# Altium integrated library Infineon_Microcontroller.IntLib: 721 symbols (part 40 of 66)
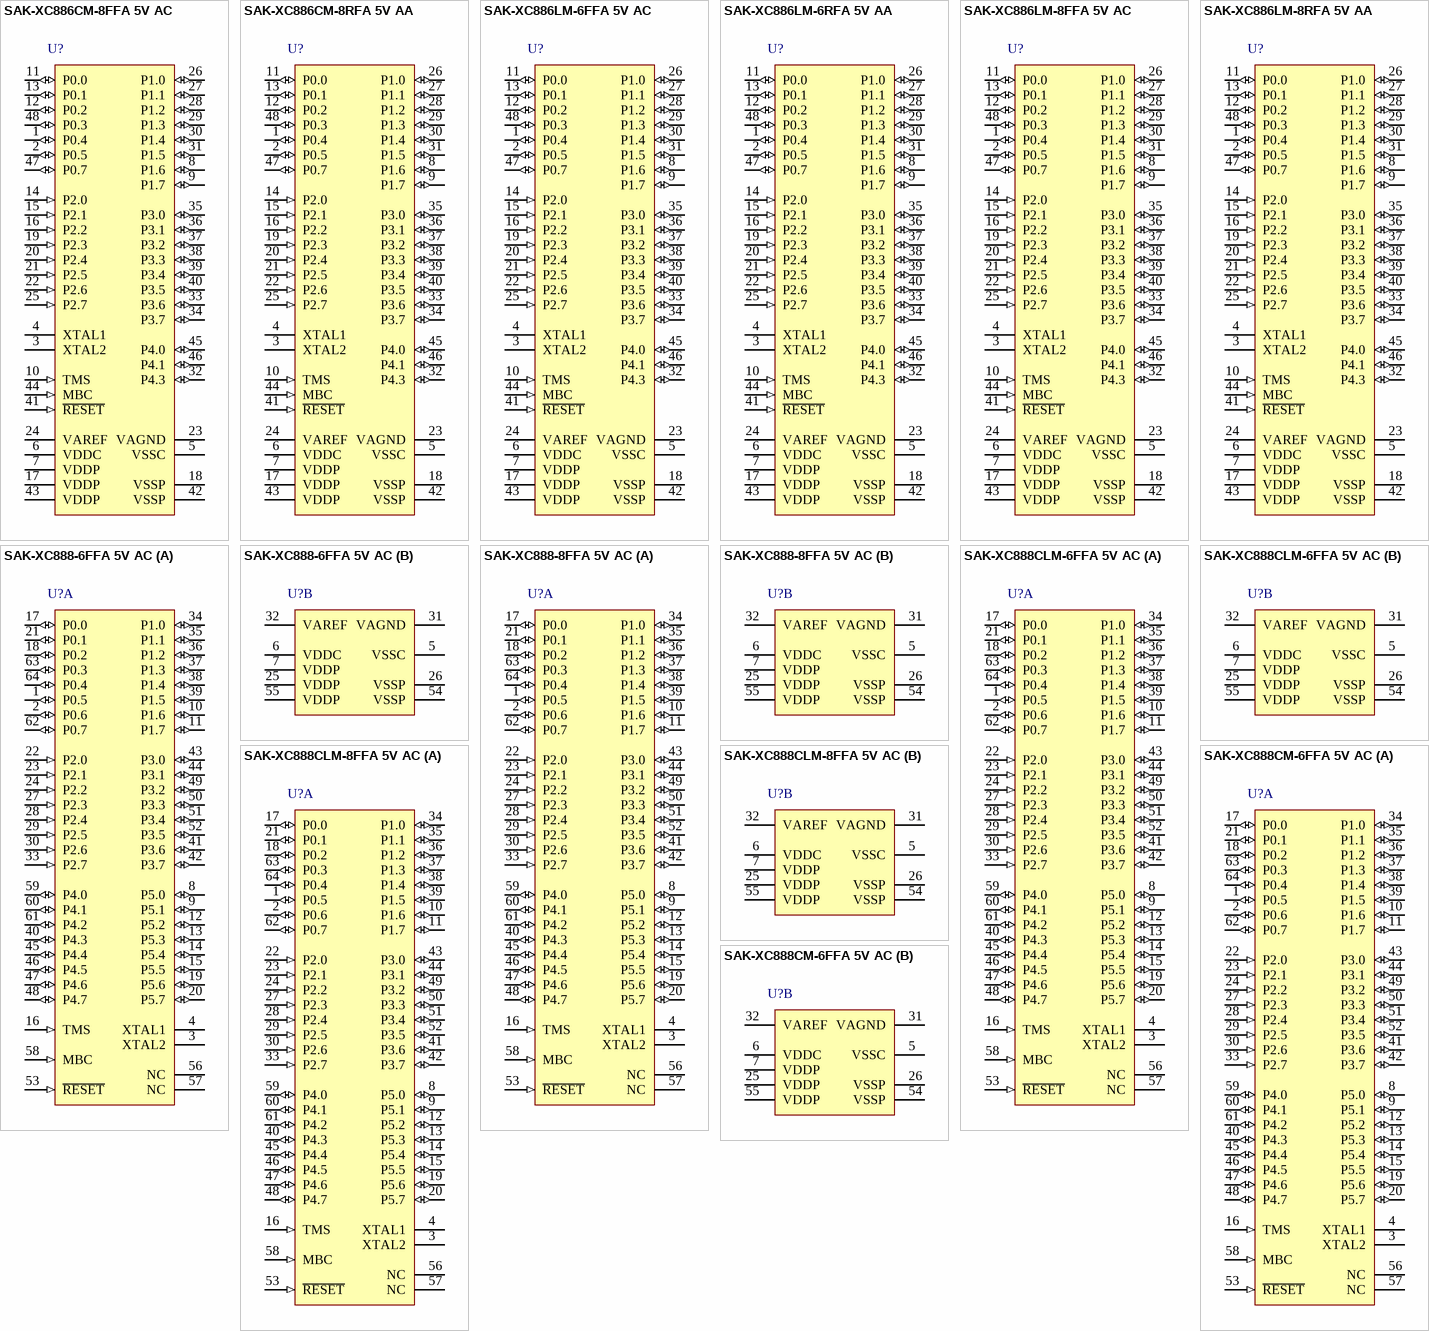
[diagram p157: symbols SAK-XC886CM-8FFA 5V AC to SAK-XC888CM-6FFA 5V AC]

## SAK-XC886LM-8RFA 5V AA
designator U?
24 MHz XC800-Automotive MCU with 32 KByte Program Memory, 1.75 KByte SRAM, 5 V, PG-TQFP-48, Green; Manufacturer: Infineon; PartNumber: SAK-XC886LM-8RFA 5V AA; A / D input lines (incl. FADC): 8; CAN Nodes: 0; Digital I/O Lines: 34; DSP functionality (e.g MDU/MAC): TRUE; I/O Operation Voltages: 5 V; LIN BSL loader (for fast Flash programming): FALSE; Max Clock Frequency: 24 MHz; Number of ADC Modules: 1; Power Modes: 4; Real Time Clock (RTC): FALSE; Serial I/O Interfaces: 3; Type of Memory: ROM; Type of Serial I/O Interfaces: UART(2), SSC(1); DatasheetVersion: Rev. 1.2; PackageVersion: V1.2, 07/2009; PackageReference: PG-TQFP-48-2; PackageDescription: 48-Pin Plastic (Green) Thin Quad Flat Package, Body 7 x 7 mm, Pitch 0.5 mm; DMA Channels: 0; E2PROM Emulation (Data-Flash): TRUE; Green: TRUE; Instruction width [bits]: 8; On-chip clock generation: TRUE; On-chip Voltage Regulator: TRUE; Oscillator Watchdog: TRUE; Program Memory: 32 KByte; SRAM (incl. Cache): 1.75 KByte; Timed I/O Pins (PWM-Ch,CAPCOM): 4; Timer / Counter: 4; Watchdog Timer: TRUE; Mounting Technology: Surface Mount; ComponentLink1Description: Manufacturer URL; ComponentLink1URL: http://www.infineon.com/; ComponentLink2Description: Datasheet; ComponentLink2URL: http://www.infineon.com/dgdl/XC88xCLM_ds_V1_2.pdf?folderId=db3a304412b407950112b408e8c90004&fileId=db3a304412b407950112b40c4a9e0afb; ComponentLink3Description: Package Specification; ComponentLink3URL: http://www.infineon.com/dgdl/XC88xCLM_ds_V1_2.pdf?folderId=db3a304412b407950112b408e8c90004&fileId=db3a304412b407950112b40c4a9e0afb&sId=db3a30433d956bc3013d9f3d9f5d28dc
footprint INF-PG-TQFP-48-2_N (QFP, 48-Leads, Body 7x7mm, Pitch 0.5mm, IPC Medium Density)
footprint INF-PG-TQFP-48-2_L (QFP, 48-Leads, Body 7x7mm, Pitch 0.5mm, IPC High Density)
footprint INF-PG-TQFP-48-2_M (QFP, 48-Leads, Body 7x7mm, Pitch 0.5mm, IPC Low Density)
pins: 1 P0.4 (io), 2 P0.5 (io), 3 XTAL2 "External Oscillator Output", 4 XTAL1 "External Oscillator Input", 5 VSSC (power) "Core Supply Ground", 6 VDDC (power) "Core Supply Monitor (2.5 V)", 7 VDDP (power) "I/O Port Supply (3.3 or 5.0 V)", 8 P1.6 (io), 9 P1.7 (io), 10 TMS (in) "Test Mode Select", 11 P0.0 (io), 12 P0.2 (io), 13 P0.1 (io), 14 P2.0 (in), 15 P2.1 (in), 16 P2.2 (in), 17 VDDP (power) "I/O Port Supply (3.3 or 5.0 V)", 18 VSSP (power) "I/O Port Ground", 19 P2.3 (in), 20 P2.4 (in), 21 P2.5 (in), 22 P2.6 (in), 23 VAGND (power) "ADC Reference Ground", 24 VAREF (power) "ADC Reference Voltage", 25 P2.7 (in), 26 P1.0 (io), 27 P1.1 (io), 28 P1.2 (io), 29 P1.3 (io), 30 P1.4 (io), 31 P1.5 (io), 32 P4.3 (io), 33 P3.6 (io), 34 P3.7 (io), 35 P3.0 (io), 36 P3.1 (io), 37 P3.2 (io), 38 P3.3 (io), 39 P3.4 (io), 40 P3.5 (io), 41 ~{RESET} (in) "Reset Input", 42 VSSP (power) "I/O Port Ground", 43 VDDP (power) "I/O Port Supply (3.3 or 5.0 V)", 44 MBC (in) "Monitor & BootStrap Loader Control", 45 P4.0 (io), 46 P4.1 (io), 47 P0.7 (io), 48 P0.3 (io)

## SAK-XC888-6FFA 5V AC
designator U?
24 MHz XC800-Automotive MCU with 24 KByte Program Memory, 1.75 KByte SRAM, 5 V, PG-LQFP-64, Reel, Green; Manufacturer: Infineon; PartNumber: SAK-XC888-6FFA 5V AC; A / D input lines (incl. FADC): 8; CAN Nodes: 0; Digital I/O Lines: 48; DSP functionality (e.g MDU/MAC): FALSE; E2PROM Emulation (Data-Flash): TRUE; I/O Operation Voltages: 5 V; LIN BSL loader (for fast Flash programming): FALSE; Max Clock Frequency: 24 MHz; Number of ADC Modules: 1; Power Modes: 4; Serial I/O Interfaces: 3; Type of Memory: Flash; Type of Serial I/O Interfaces: UART(2), SSC(1); DatasheetVersion: Rev. 1.2; PackageVersion: V1.2, 03/2007; PackageReference: PG-TQFP-64-8; PackageDescription: 64-Pin Plastic Thin Quad Flat Package, Body 10 x 10 mm, Pitch 0.5 mm; Supplier 1: Digi-Key; Supplier Part Number 1: SAK-XC888-6FFA 5V AC-ND; DMA Channels: 0; Green: TRUE; Halogen-free: TRUE; Instruction width [bits]: 8; On-chip clock generation: TRUE; On-chip Voltage Regulator: TRUE; Oscillator Watchdog: TRUE; Program Memory: 24 KByte; Real Time Clock (RTC): FALSE; SRAM (incl. Cache): 1.75 KByte; Timed I/O Pins (PWM-Ch,CAPCOM): 4; Timer / Counter: 4; Watchdog Timer: TRUE; Mounting Technology: Surface Mount; ComponentLink1Description: Manufacturer URL; ComponentLink1URL: http://www.infineon.com/; ComponentLink2Description: Datasheet; ComponentLink2URL: http://www.infineon.com/dgdl/XC88xCLM_ds_V1_2.pdf?folderId=db3a304412b407950112b408e8c90004&fileId=db3a304412b407950112b40c4a9e0afb; ComponentLink3Description: Package Specification; ComponentLink3URL: http://www.infineon.com/dgdl/xc164lm_ds_v1.2_2007_03.pdf?folderId=db3a304412b407950112b408e8c90004&fileId=db3a304412b407950112b40c22200a81&sId=db3a30433d956bc3013d9e7060dd2801
footprint INF-PG-TQFP-64-8_N (QFP, 64-Leads, Body 10x10mm, Pitch 0.5mm, IPC Medium Density)
footprint INF-PG-TQFP-64-8_L (QFP, 64-Leads, Body 10x10mm, Pitch 0.5mm, IPC High Density)
footprint INF-PG-TQFP-64-8_M (QFP, 64-Leads, Body 10x10mm, Pitch 0.5mm, IPC Low Density)
part A pins: 1 P0.5 (io), 2 P0.6 (io) "GPIO", 3 XTAL2 "External Oscillator Output", 4 XTAL1 "External Oscillator Input", 8 P5.0 (io), 9 P5.1 (io), 10 P1.6 (io), 11 P1.7 (io), 12 P5.2 (io), 13 P5.3 (io), 14 P5.4 (io), 15 P5.5 (io), 16 TMS (in) "Test Mode Select", 17 P0.0 (io), 18 P0.2 (io), 19 P5.6 (io), 20 P5.7 (io), 21 P0.1 (io), 22 P2.0 (in), 23 P2.1 (in), 24 P2.2 (in), 27 P2.3 (in), 28 P2.4 (in), 29 P2.5 (in), 30 P2.6 (in), 33 P2.7 (in), 34 P1.0 (io), 35 P1.1 (io), 36 P1.2 (io), 37 P1.3 (io), 38 P1.4 (io), 39 P1.5 (io), 40 P4.3 (io), 41 P3.6 (io), 42 P3.7 (io), 43 P3.0 (io), 44 P3.1 (io), 45 P4.4 (io), 46 P4.5 (io), 47 P4.6 (io), 48 P4.7 (io), 49 P3.2 (io), 50 P3.3 (io), 51 P3.4 (io), 52 P3.5 (io), 53 ~{RESET} (in) "Reset Input", 56 NC "No Connection", 57 NC "No Connection", 58 MBC (in) "Monitor & BootStrap Loader Control", 59 P4.0 (io), 60 P4.1 (io), 61 P4.2 (io), 62 P0.7 (io), 63 P0.3 (io), 64 P0.4 (io)
part B pins: 5 VSSC (power) "Core Supply Ground", 6 VDDC (power) "Core Supply Monitor (2.5 V)", 7 VDDP (power) "I/O Port Supply (3.3 or 5.0 V)", 25 VDDP (power) "I/O Port Supply (3.3 or 5.0 V)", 26 VSSP (power) "I/O Port Ground", 31 VAGND (power) "ADC Reference Ground", 32 VAREF (power) "ADC Reference Voltage", 54 VSSP (power) "I/O Port Ground", 55 VDDP (power) "I/O Port Supply (3.3 or 5.0 V)"

## SAK-XC888-8FFA 5V AC
designator U?
24 MHz XC800-Automotive MCU with 32 KByte Program Memory, 1.75 KByte SRAM, 5 V, PG-LQFP-64, Reel, Green; Manufacturer: Infineon; PartNumber: SAK-XC888-8FFA 5V AC; A / D input lines (incl. FADC): 8; CAN Nodes: 0; Digital I/O Lines: 48; DSP functionality (e.g MDU/MAC): FALSE; E2PROM Emulation (Data-Flash): TRUE; I/O Operation Voltages: 5 V; LIN BSL loader (for fast Flash programming): FALSE; Max Clock Frequency: 24 MHz; Number of ADC Modules: 1; Power Modes: 4; Serial I/O Interfaces: 3; Type of Memory: Flash; Type of Serial I/O Interfaces: UART(2), SSC(1); DatasheetVersion: Rev. 1.2; PackageVersion: V1.2, 03/2007; PackageReference: PG-TQFP-64-8; PackageDescription: 64-Pin Plastic Thin Quad Flat Package, Body 10 x 10 mm, Pitch 0.5 mm; Supplier 1: Digi-Key; Supplier Part Number 1: SAK-XC888-8FFA 5V AC-ND; DMA Channels: 0; Green: TRUE; Halogen-free: TRUE; Instruction width [bits]: 8; On-chip clock generation: TRUE; On-chip Voltage Regulator: TRUE; Oscillator Watchdog: TRUE; Program Memory: 32 KByte; Real Time Clock (RTC): FALSE; SRAM (incl. Cache): 1.75 KByte; Timed I/O Pins (PWM-Ch,CAPCOM): 4; Timer / Counter: 4; Watchdog Timer: TRUE; Mounting Technology: Surface Mount; ComponentLink1Description: Manufacturer URL; ComponentLink1URL: http://www.infineon.com/; ComponentLink2Description: Datasheet; ComponentLink2URL: http://www.infineon.com/dgdl/XC88xCLM_ds_V1_2.pdf?folderId=db3a304412b407950112b408e8c90004&fileId=db3a304412b407950112b40c4a9e0afb; ComponentLink3Description: Package Specification; ComponentLink3URL: http://www.infineon.com/dgdl/xc164lm_ds_v1.2_2007_03.pdf?folderId=db3a304412b407950112b408e8c90004&fileId=db3a304412b407950112b40c22200a81&sId=db3a30433d956bc3013d9e7060dd2801
footprint INF-PG-TQFP-64-8_N (QFP, 64-Leads, Body 10x10mm, Pitch 0.5mm, IPC Medium Density)
footprint INF-PG-TQFP-64-8_L (QFP, 64-Leads, Body 10x10mm, Pitch 0.5mm, IPC High Density)
footprint INF-PG-TQFP-64-8_M (QFP, 64-Leads, Body 10x10mm, Pitch 0.5mm, IPC Low Density)
part A pins: 1 P0.5 (io), 2 P0.6 (io) "GPIO", 3 XTAL2 "External Oscillator Output", 4 XTAL1 "External Oscillator Input", 8 P5.0 (io), 9 P5.1 (io), 10 P1.6 (io), 11 P1.7 (io), 12 P5.2 (io), 13 P5.3 (io), 14 P5.4 (io), 15 P5.5 (io), 16 TMS (in) "Test Mode Select", 17 P0.0 (io), 18 P0.2 (io), 19 P5.6 (io), 20 P5.7 (io), 21 P0.1 (io), 22 P2.0 (in), 23 P2.1 (in), 24 P2.2 (in), 27 P2.3 (in), 28 P2.4 (in), 29 P2.5 (in), 30 P2.6 (in), 33 P2.7 (in), 34 P1.0 (io), 35 P1.1 (io), 36 P1.2 (io), 37 P1.3 (io), 38 P1.4 (io), 39 P1.5 (io), 40 P4.3 (io), 41 P3.6 (io), 42 P3.7 (io), 43 P3.0 (io), 44 P3.1 (io), 45 P4.4 (io), 46 P4.5 (io), 47 P4.6 (io), 48 P4.7 (io), 49 P3.2 (io), 50 P3.3 (io), 51 P3.4 (io), 52 P3.5 (io), 53 ~{RESET} (in) "Reset Input", 56 NC "No Connection", 57 NC "No Connection", 58 MBC (in) "Monitor & BootStrap Loader Control", 59 P4.0 (io), 60 P4.1 (io), 61 P4.2 (io), 62 P0.7 (io), 63 P0.3 (io), 64 P0.4 (io)
part B pins: 5 VSSC (power) "Core Supply Ground", 6 VDDC (power) "Core Supply Monitor (2.5 V)", 7 VDDP (power) "I/O Port Supply (3.3 or 5.0 V)", 25 VDDP (power) "I/O Port Supply (3.3 or 5.0 V)", 26 VSSP (power) "I/O Port Ground", 31 VAGND (power) "ADC Reference Ground", 32 VAREF (power) "ADC Reference Voltage", 54 VSSP (power) "I/O Port Ground", 55 VDDP (power) "I/O Port Supply (3.3 or 5.0 V)"

## SAK-XC888CLM-6FFA 5V AC
designator U?
24 MHz XC800-Automotive MCU with 24 KByte Program Memory, 1.75 KByte SRAM, 5 V, PG-LQFP-64, Reel, Green; Manufacturer: Infineon; PartNumber: SAK-XC888CLM-6FFA 5V AC; A / D input lines (incl. FADC): 8; CAN Nodes: 2; Digital I/O Lines: 48; DMA Channels: 0; DSP functionality (e.g MDU/MAC): TRUE; I/O Operation Voltages: 5 V; Max Clock Frequency: 24 MHz; Number of ADC Modules: 1; Power Modes: 4; Real Time Clock (RTC): FALSE; Serial I/O Interfaces: 3; Type of Memory: Flash; Type of Serial I/O Interfaces: UART(2), SSC(1); DatasheetVersion: Rev. 1.2; PackageVersion: V1.2, 03/2007; PackageReference: PG-TQFP-64-8; PackageDescription: 64-Pin Plastic Thin Quad Flat Package, Body 10 x 10 mm, Pitch 0.5 mm; Supplier 1: Digi-Key; Supplier Part Number 1: SAK-XC888CLM-6FFA 5V AC-ND; E2PROM Emulation (Data-Flash): TRUE; Green: TRUE; Halogen-free: TRUE; Instruction width [bits]: 8; LIN BSL loader (for fast Flash programming): TRUE; On-chip clock generation: TRUE; On-chip Voltage Regulator: TRUE; Oscillator Watchdog: TRUE; Program Memory: 24 KByte; SRAM (incl. Cache): 1.75 KByte; Timed I/O Pins (PWM-Ch,CAPCOM): 4; Timer / Counter: 4; Watchdog Timer: TRUE; Mounting Technology: Surface Mount; ComponentLink1Description: Manufacturer URL; ComponentLink1URL: http://www.infineon.com/; ComponentLink2Description: Datasheet; ComponentLink2URL: http://www.infineon.com/dgdl/XC88xCLM_ds_V1_2.pdf?folderId=db3a304412b407950112b408e8c90004&fileId=db3a304412b407950112b40c4a9e0afb; ComponentLink3Description: Package Specification; ComponentLink3URL: http://www.infineon.com/dgdl/xc164lm_ds_v1.2_2007_03.pdf?folderId=db3a304412b407950112b408e8c90004&fileId=db3a304412b407950112b40c22200a81&sId=db3a30433d956bc3013d9e7060dd2801
footprint INF-PG-TQFP-64-8_N (QFP, 64-Leads, Body 10x10mm, Pitch 0.5mm, IPC Medium Density)
footprint INF-PG-TQFP-64-8_L (QFP, 64-Leads, Body 10x10mm, Pitch 0.5mm, IPC High Density)
footprint INF-PG-TQFP-64-8_M (QFP, 64-Leads, Body 10x10mm, Pitch 0.5mm, IPC Low Density)
part A pins: 1 P0.5 (io), 2 P0.6 (io) "GPIO", 3 XTAL2 "External Oscillator Output", 4 XTAL1 "External Oscillator Input", 8 P5.0 (io), 9 P5.1 (io), 10 P1.6 (io), 11 P1.7 (io), 12 P5.2 (io), 13 P5.3 (io), 14 P5.4 (io), 15 P5.5 (io), 16 TMS (in) "Test Mode Select", 17 P0.0 (io), 18 P0.2 (io), 19 P5.6 (io), 20 P5.7 (io), 21 P0.1 (io), 22 P2.0 (in), 23 P2.1 (in), 24 P2.2 (in), 27 P2.3 (in), 28 P2.4 (in), 29 P2.5 (in), 30 P2.6 (in), 33 P2.7 (in), 34 P1.0 (io), 35 P1.1 (io), 36 P1.2 (io), 37 P1.3 (io), 38 P1.4 (io), 39 P1.5 (io), 40 P4.3 (io), 41 P3.6 (io), 42 P3.7 (io), 43 P3.0 (io), 44 P3.1 (io), 45 P4.4 (io), 46 P4.5 (io), 47 P4.6 (io), 48 P4.7 (io), 49 P3.2 (io), 50 P3.3 (io), 51 P3.4 (io), 52 P3.5 (io), 53 ~{RESET} (in) "Reset Input", 56 NC "No Connection", 57 NC "No Connection", 58 MBC (in) "Monitor & BootStrap Loader Control", 59 P4.0 (io), 60 P4.1 (io), 61 P4.2 (io), 62 P0.7 (io), 63 P0.3 (io), 64 P0.4 (io)
part B pins: 5 VSSC (power) "Core Supply Ground", 6 VDDC (power) "Core Supply Monitor (2.5 V)", 7 VDDP (power) "I/O Port Supply (3.3 or 5.0 V)", 25 VDDP (power) "I/O Port Supply (3.3 or 5.0 V)", 26 VSSP (power) "I/O Port Ground", 31 VAGND (power) "ADC Reference Ground", 32 VAREF (power) "ADC Reference Voltage", 54 VSSP (power) "I/O Port Ground", 55 VDDP (power) "I/O Port Supply (3.3 or 5.0 V)"

## SAK-XC888CLM-8FFA 5V AC
designator U?
24 MHz XC800-Automotive MCU with 32 KByte Program Memory, 1.75 KByte SRAM, 5 V, PG-LQFP-64, Reel, Green; Manufacturer: Infineon; PartNumber: SAK-XC888CLM-8FFA 5V AC; A / D input lines (incl. FADC): 8; CAN Nodes: 2; Digital I/O Lines: 48; DMA Channels: 0; DSP functionality (e.g MDU/MAC): TRUE; I/O Operation Voltages: 5 V; Max Clock Frequency: 24 MHz; Number of ADC Modules: 1; Power Modes: 4; Real Time Clock (RTC): FALSE; Serial I/O Interfaces: 3; Type of Memory: Flash; Type of Serial I/O Interfaces: UART(2), SSC(1); DatasheetVersion: Rev. 1.2; PackageVersion: V1.2, 03/2007; PackageReference: PG-TQFP-64-8; PackageDescription: 64-Pin Plastic Thin Quad Flat Package, Body 10 x 10 mm, Pitch 0.5 mm; Supplier 1: Digi-Key; Supplier Part Number 1: SAK-XC888CLM-8FFA 5V AC-ND; E2PROM Emulation (Data-Flash): TRUE; Green: TRUE; Halogen-free: available; Instruction width [bits]: 8; LIN BSL loader (for fast Flash programming): TRUE; On-chip clock generation: TRUE; On-chip Voltage Regulator: TRUE; Oscillator Watchdog: TRUE; Packing: Reel; Program Memory: 32 KByte; SRAM (incl. Cache): 1.75 KByte; Timed I/O Pins (PWM-Ch,CAPCOM): 4; Timer / Counter: 4; Watchdog Timer: TRUE; Mounting Technology: Surface Mount; ComponentLink1Description: Manufacturer URL; ComponentLink1URL: http://www.infineon.com/; ComponentLink2Description: Datasheet; ComponentLink2URL: http://www.infineon.com/dgdl/XC88xCLM_ds_V1_2.pdf?folderId=db3a304412b407950112b408e8c90004&fileId=db3a304412b407950112b40c4a9e0afb; ComponentLink3Description: Package Specification; ComponentLink3URL: http://www.infineon.com/dgdl/xc164lm_ds_v1.2_2007_03.pdf?folderId=db3a304412b407950112b408e8c90004&fileId=db3a304412b407950112b40c22200a81&sId=db3a30433d956bc3013d9e7060dd2801
footprint INF-PG-TQFP-64-8_N (QFP, 64-Leads, Body 10x10mm, Pitch 0.5mm, IPC Medium Density)
footprint INF-PG-TQFP-64-8_L (QFP, 64-Leads, Body 10x10mm, Pitch 0.5mm, IPC High Density)
footprint INF-PG-TQFP-64-8_M (QFP, 64-Leads, Body 10x10mm, Pitch 0.5mm, IPC Low Density)
part A pins: 1 P0.5 (io), 2 P0.6 (io) "GPIO", 3 XTAL2 "External Oscillator Output", 4 XTAL1 "External Oscillator Input", 8 P5.0 (io), 9 P5.1 (io), 10 P1.6 (io), 11 P1.7 (io), 12 P5.2 (io), 13 P5.3 (io), 14 P5.4 (io), 15 P5.5 (io), 16 TMS (in) "Test Mode Select", 17 P0.0 (io), 18 P0.2 (io), 19 P5.6 (io), 20 P5.7 (io), 21 P0.1 (io), 22 P2.0 (in), 23 P2.1 (in), 24 P2.2 (in), 27 P2.3 (in), 28 P2.4 (in), 29 P2.5 (in), 30 P2.6 (in), 33 P2.7 (in), 34 P1.0 (io), 35 P1.1 (io), 36 P1.2 (io), 37 P1.3 (io), 38 P1.4 (io), 39 P1.5 (io), 40 P4.3 (io), 41 P3.6 (io), 42 P3.7 (io), 43 P3.0 (io), 44 P3.1 (io), 45 P4.4 (io), 46 P4.5 (io), 47 P4.6 (io), 48 P4.7 (io), 49 P3.2 (io), 50 P3.3 (io), 51 P3.4 (io), 52 P3.5 (io), 53 ~{RESET} (in) "Reset Input", 56 NC "No Connection", 57 NC "No Connection", 58 MBC (in) "Monitor & BootStrap Loader Control", 59 P4.0 (io), 60 P4.1 (io), 61 P4.2 (io), 62 P0.7 (io), 63 P0.3 (io), 64 P0.4 (io)
part B pins: 5 VSSC (power) "Core Supply Ground", 6 VDDC (power) "Core Supply Monitor (2.5 V)", 7 VDDP (power) "I/O Port Supply (3.3 or 5.0 V)", 25 VDDP (power) "I/O Port Supply (3.3 or 5.0 V)", 26 VSSP (power) "I/O Port Ground", 31 VAGND (power) "ADC Reference Ground", 32 VAREF (power) "ADC Reference Voltage", 54 VSSP (power) "I/O Port Ground", 55 VDDP (power) "I/O Port Supply (3.3 or 5.0 V)"

## SAK-XC888CM-6FFA 5V AC
designator U?
24 MHz XC800-Automotive MCU with 24 KByte Program Memory, 1.75 KByte SRAM, 5 V, PG-LQFP-64, Reel, Green; Manufacturer: Infineon; PartNumber: SAK-XC888CM-6FFA 5V AC; A / D input lines (incl. FADC): 8; CAN Nodes: 2; Digital I/O Lines: 48; DMA Channels: 0; DSP functionality (e.g MDU/MAC): TRUE; I/O Operation Voltages: 5 V; LIN BSL loader (for fast Flash programming): FALSE; Max Clock Frequency: 24 MHz; Number of ADC Modules: 1; Power Modes: 4; Real Time Clock (RTC): FALSE; Serial I/O Interfaces: 3; Type of Memory: Flash; Type of Serial I/O Interfaces: UART(2), SSC(1); DatasheetVersion: Rev. 1.2; PackageVersion: V1.2, 03/2007; PackageReference: PG-TQFP-64-8; PackageDescription: 64-Pin Plastic Thin Quad Flat Package, Body 10 x 10 mm, Pitch 0.5 mm; Supplier 1: Digi-Key; Supplier Part Number 1: SAK-XC888CM-6FFA 5V AC-ND; E2PROM Emulation (Data-Flash): TRUE; Green: TRUE; Halogen-free: TRUE; Instruction width [bits]: 8; On-chip clock generation: TRUE; On-chip Voltage Regulator: TRUE; Oscillator Watchdog: TRUE; Program Memory: 24 KByte; SRAM (incl. Cache): 1.75 KByte; Timed I/O Pins (PWM-Ch,CAPCOM): 4; Timer / Counter: 4; Watchdog Timer: TRUE; Mounting Technology: Surface Mount; ComponentLink1Description: Manufacturer URL; ComponentLink1URL: http://www.infineon.com/; ComponentLink2Description: Datasheet; ComponentLink2URL: http://www.infineon.com/dgdl/XC88xCLM_ds_V1_2.pdf?folderId=db3a304412b407950112b408e8c90004&fileId=db3a304412b407950112b40c4a9e0afb; ComponentLink3Description: Package Specification; ComponentLink3URL: http://www.infineon.com/dgdl/xc164lm_ds_v1.2_2007_03.pdf?folderId=db3a304412b407950112b408e8c90004&fileId=db3a304412b407950112b40c22200a81&sId=db3a30433d956bc3013d9e7060dd2801
footprint INF-PG-TQFP-64-8_N (QFP, 64-Leads, Body 10x10mm, Pitch 0.5mm, IPC Medium Density)
footprint INF-PG-TQFP-64-8_L (QFP, 64-Leads, Body 10x10mm, Pitch 0.5mm, IPC High Density)
footprint INF-PG-TQFP-64-8_M (QFP, 64-Leads, Body 10x10mm, Pitch 0.5mm, IPC Low Density)
part A pins: 1 P0.5 (io), 2 P0.6 (io) "GPIO", 3 XTAL2 "External Oscillator Output", 4 XTAL1 "External Oscillator Input", 8 P5.0 (io), 9 P5.1 (io), 10 P1.6 (io), 11 P1.7 (io), 12 P5.2 (io), 13 P5.3 (io), 14 P5.4 (io), 15 P5.5 (io), 16 TMS (in) "Test Mode Select", 17 P0.0 (io), 18 P0.2 (io), 19 P5.6 (io), 20 P5.7 (io), 21 P0.1 (io), 22 P2.0 (in), 23 P2.1 (in), 24 P2.2 (in), 27 P2.3 (in), 28 P2.4 (in), 29 P2.5 (in), 30 P2.6 (in), 33 P2.7 (in), 34 P1.0 (io), 35 P1.1 (io), 36 P1.2 (io), 37 P1.3 (io), 38 P1.4 (io), 39 P1.5 (io), 40 P4.3 (io), 41 P3.6 (io), 42 P3.7 (io), 43 P3.0 (io), 44 P3.1 (io), 45 P4.4 (io), 46 P4.5 (io), 47 P4.6 (io), 48 P4.7 (io), 49 P3.2 (io), 50 P3.3 (io), 51 P3.4 (io), 52 P3.5 (io), 53 ~{RESET} (in) "Reset Input", 56 NC "No Connection", 57 NC "No Connection", 58 MBC (in) "Monitor & BootStrap Loader Control", 59 P4.0 (io), 60 P4.1 (io), 61 P4.2 (io), 62 P0.7 (io), 63 P0.3 (io), 64 P0.4 (io)
part B pins: 5 VSSC (power) "Core Supply Ground", 6 VDDC (power) "Core Supply Monitor (2.5 V)", 7 VDDP (power) "I/O Port Supply (3.3 or 5.0 V)", 25 VDDP (power) "I/O Port Supply (3.3 or 5.0 V)", 26 VSSP (power) "I/O Port Ground", 31 VAGND (power) "ADC Reference Ground", 32 VAREF (power) "ADC Reference Voltage", 54 VSSP (power) "I/O Port Ground", 55 VDDP (power) "I/O Port Supply (3.3 or 5.0 V)"

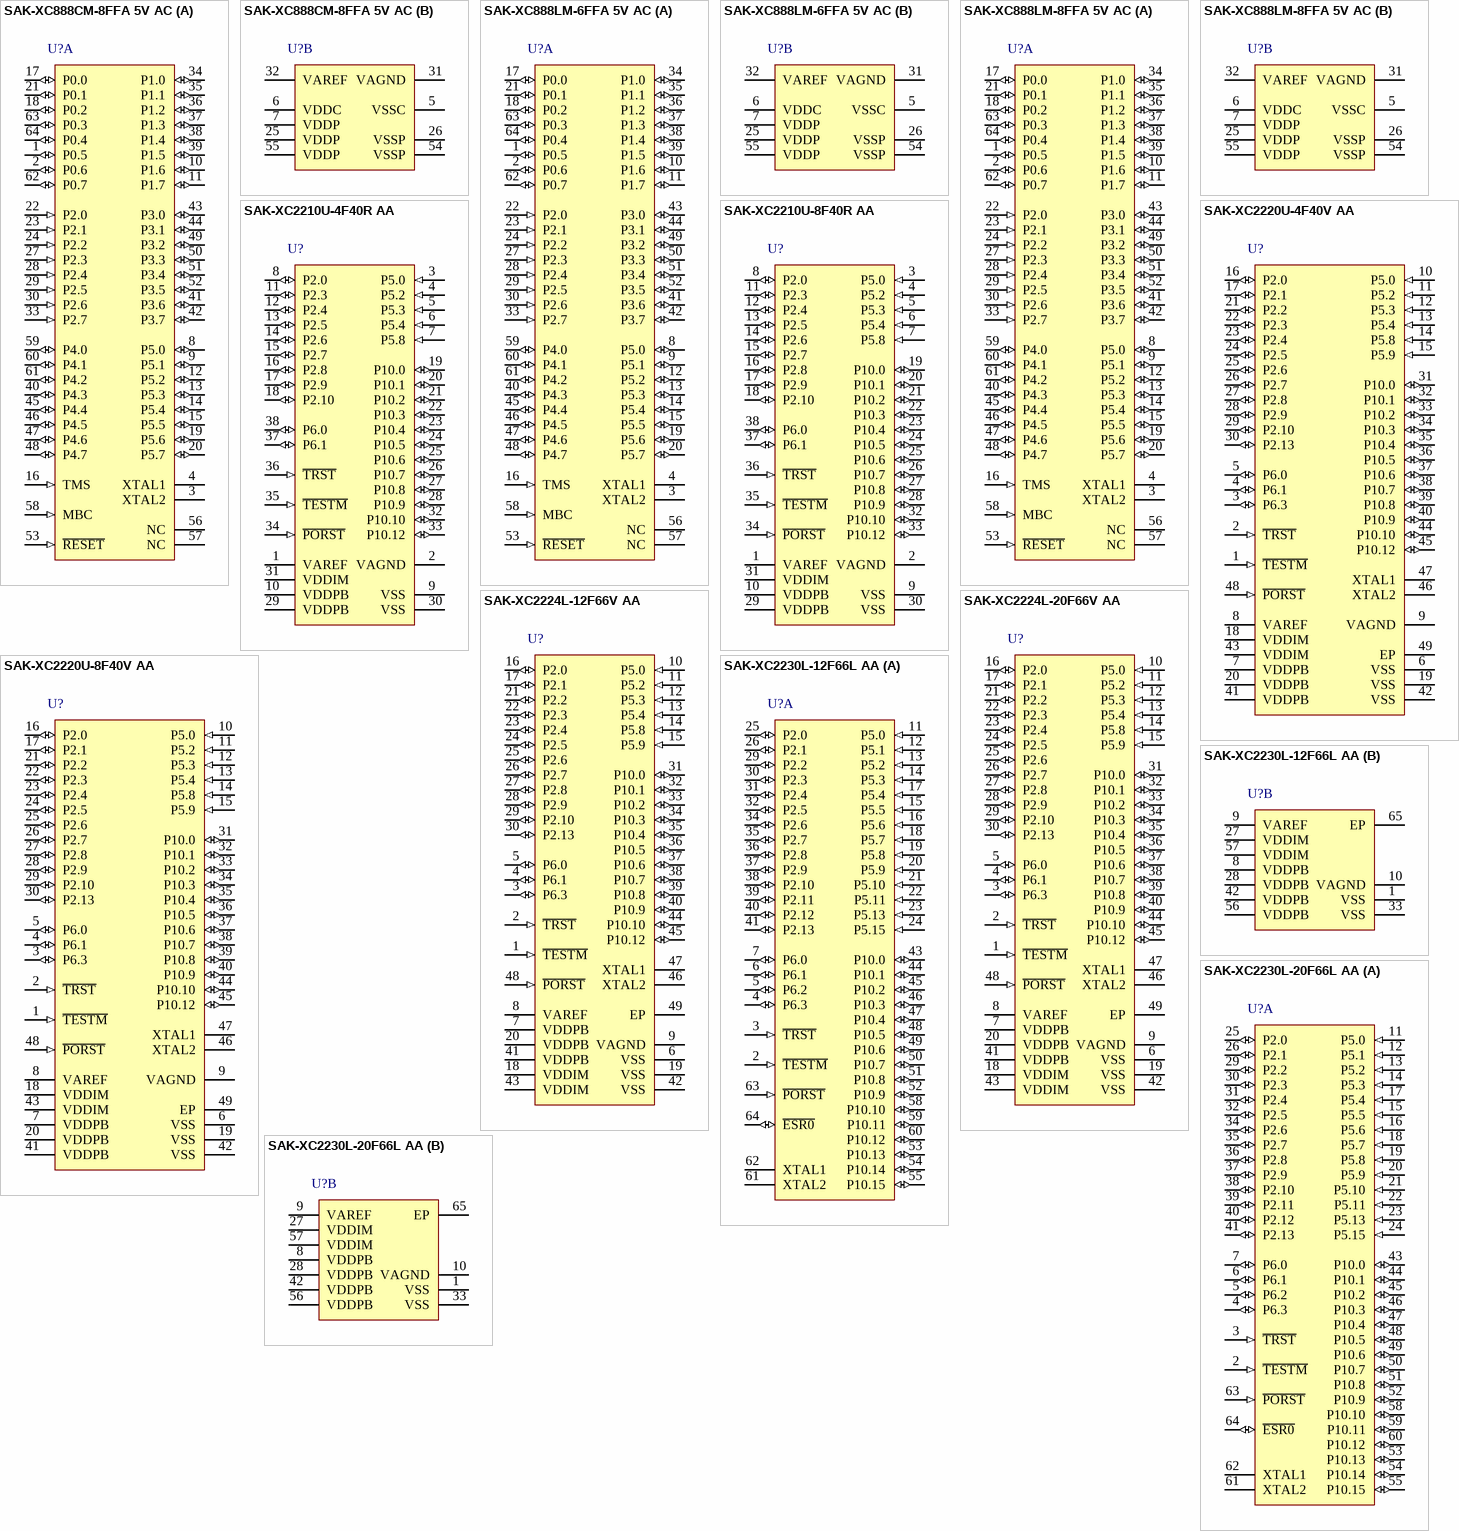
[diagram p71: symbols SAK-XC888CM-8FFA 5V AC to SAK-XC2230L-20F66L AA]

## SAK-XC888CM-8FFA 5V AC
designator U?
24 MHz XC800-Automotive MCU with 32 KByte Program Memory, 1.75 KByte SRAM, 5 V, PG-LQFP-64, Reel, Green; Manufacturer: Infineon; PartNumber: SAK-XC888CM-8FFA 5V AC; A / D input lines (incl. FADC): 8; CAN Nodes: 2; Digital I/O Lines: 48; DMA Channels: 0; DSP functionality (e.g MDU/MAC): TRUE; I/O Operation Voltages: 5 V; LIN BSL loader (for fast Flash programming): FALSE; Max Clock Frequency: 24 MHz; Number of ADC Modules: 1; Power Modes: 4; Real Time Clock (RTC): FALSE; Serial I/O Interfaces: 3; Type of Memory: Flash; Type of Serial I/O Interfaces: UART(2), SSC(1); DatasheetVersion: Rev. 1.2; PackageVersion: V1.2, 03/2007; PackageReference: PG-TQFP-64-8; PackageDescription: 64-Pin Plastic Thin Quad Flat Package, Body 10 x 10 mm, Pitch 0.5 mm; Supplier 1: Digi-Key; Supplier Part Number 1: SAK-XC888CM-8FFAACINCT-ND; Supplier 2: Digi-Key; Supplier Part Number 2: SAK-XC888CM-8FFAACINDKR-ND; E2PROM Emulation (Data-Flash): TRUE; Green: TRUE; Halogen-free: available; Instruction width [bits]: 8; On-chip clock generation: TRUE; On-chip Voltage Regulator: TRUE; Oscillator Watchdog: TRUE; Packing: Reel; Program Memory: 32 KByte; SRAM (incl. Cache): 1.75 KByte; Timed I/O Pins (PWM-Ch,CAPCOM): 4; Timer / Counter: 4; Watchdog Timer: TRUE; Mounting Technology: Surface Mount; ComponentLink1Description: Manufacturer URL; ComponentLink1URL: http://www.infineon.com/; ComponentLink2Description: Datasheet; ComponentLink2URL: http://www.infineon.com/dgdl/XC88xCLM_ds_V1_2.pdf?folderId=db3a304412b407950112b408e8c90004&fileId=db3a304412b407950112b40c4a9e0afb; ComponentLink3Description: Package Specification; ComponentLink3URL: http://www.infineon.com/dgdl/xc164lm_ds_v1.2_2007_03.pdf?folderId=db3a304412b407950112b408e8c90004&fileId=db3a304412b407950112b40c22200a81&sId=db3a30433d956bc3013d9e7060dd2801
footprint INF-PG-TQFP-64-8_N (QFP, 64-Leads, Body 10x10mm, Pitch 0.5mm, IPC Medium Density)
footprint INF-PG-TQFP-64-8_L (QFP, 64-Leads, Body 10x10mm, Pitch 0.5mm, IPC High Density)
footprint INF-PG-TQFP-64-8_M (QFP, 64-Leads, Body 10x10mm, Pitch 0.5mm, IPC Low Density)
part A pins: 1 P0.5 (io), 2 P0.6 (io) "GPIO", 3 XTAL2 "External Oscillator Output", 4 XTAL1 "External Oscillator Input", 8 P5.0 (io), 9 P5.1 (io), 10 P1.6 (io), 11 P1.7 (io), 12 P5.2 (io), 13 P5.3 (io), 14 P5.4 (io), 15 P5.5 (io), 16 TMS (in) "Test Mode Select", 17 P0.0 (io), 18 P0.2 (io), 19 P5.6 (io), 20 P5.7 (io), 21 P0.1 (io), 22 P2.0 (in), 23 P2.1 (in), 24 P2.2 (in), 27 P2.3 (in), 28 P2.4 (in), 29 P2.5 (in), 30 P2.6 (in), 33 P2.7 (in), 34 P1.0 (io), 35 P1.1 (io), 36 P1.2 (io), 37 P1.3 (io), 38 P1.4 (io), 39 P1.5 (io), 40 P4.3 (io), 41 P3.6 (io), 42 P3.7 (io), 43 P3.0 (io), 44 P3.1 (io), 45 P4.4 (io), 46 P4.5 (io), 47 P4.6 (io), 48 P4.7 (io), 49 P3.2 (io), 50 P3.3 (io), 51 P3.4 (io), 52 P3.5 (io), 53 ~{RESET} (in) "Reset Input", 56 NC "No Connection", 57 NC "No Connection", 58 MBC (in) "Monitor & BootStrap Loader Control", 59 P4.0 (io), 60 P4.1 (io), 61 P4.2 (io), 62 P0.7 (io), 63 P0.3 (io), 64 P0.4 (io)
part B pins: 5 VSSC (power) "Core Supply Ground", 6 VDDC (power) "Core Supply Monitor (2.5 V)", 7 VDDP (power) "I/O Port Supply (3.3 or 5.0 V)", 25 VDDP (power) "I/O Port Supply (3.3 or 5.0 V)", 26 VSSP (power) "I/O Port Ground", 31 VAGND (power) "ADC Reference Ground", 32 VAREF (power) "ADC Reference Voltage", 54 VSSP (power) "I/O Port Ground", 55 VDDP (power) "I/O Port Supply (3.3 or 5.0 V)"

## SAK-XC888LM-6FFA 5V AC
designator U?
24 MHz XC800-Automotive MCU with 24 KByte Program Memory, 1.75 KByte SRAM, 5 V, PG-LQFP-64, Reel, Green; Manufacturer: Infineon; PartNumber: SAK-XC888LM-6FFA 5V AC; A / D input lines (incl. FADC): 8; CAN Nodes: 0; Digital I/O Lines: 48; DSP functionality (e.g MDU/MAC): TRUE; I/O Operation Voltages: 5 V; Max Clock Frequency: 24 MHz; Number of ADC Modules: 1; Power Modes: 4; Real Time Clock (RTC): FALSE; Serial I/O Interfaces: 3; Type of Memory: Flash; Type of Serial I/O Interfaces: UART(2), SSC(1); DatasheetVersion: Rev. 1.2; PackageVersion: V1.2, 03/2007; PackageReference: PG-TQFP-64-8; PackageDescription: 64-Pin Plastic Thin Quad Flat Package, Body 10 x 10 mm, Pitch 0.5 mm; Supplier 1: Digi-Key; Supplier Part Number 1: SAK-XC888LM-6FFA 5V AC-ND; DMA Channels: 0; E2PROM Emulation (Data-Flash): TRUE; Green: TRUE; Halogen-free: TRUE; Instruction width [bits]: 8; LIN BSL loader (for fast Flash programming): TRUE; On-chip clock generation: TRUE; On-chip Voltage Regulator: TRUE; Oscillator Watchdog: TRUE; Program Memory: 24 KByte; SRAM (incl. Cache): 1.75 KByte; Timed I/O Pins (PWM-Ch,CAPCOM): 4; Timer / Counter: 4; Watchdog Timer: TRUE; Mounting Technology: Surface Mount; ComponentLink1Description: Manufacturer URL; ComponentLink1URL: http://www.infineon.com/; ComponentLink2Description: Datasheet; ComponentLink2URL: http://www.infineon.com/dgdl/XC88xCLM_ds_V1_2.pdf?folderId=db3a304412b407950112b408e8c90004&fileId=db3a304412b407950112b40c4a9e0afb; ComponentLink3Description: Package Specification; ComponentLink3URL: http://www.infineon.com/dgdl/xc164lm_ds_v1.2_2007_03.pdf?folderId=db3a304412b407950112b408e8c90004&fileId=db3a304412b407950112b40c22200a81&sId=db3a30433d956bc3013d9e7060dd2801
footprint INF-PG-TQFP-64-8_N (QFP, 64-Leads, Body 10x10mm, Pitch 0.5mm, IPC Medium Density)
footprint INF-PG-TQFP-64-8_L (QFP, 64-Leads, Body 10x10mm, Pitch 0.5mm, IPC High Density)
footprint INF-PG-TQFP-64-8_M (QFP, 64-Leads, Body 10x10mm, Pitch 0.5mm, IPC Low Density)
part A pins: 1 P0.5 (io), 2 P0.6 (io) "GPIO", 3 XTAL2 "External Oscillator Output", 4 XTAL1 "External Oscillator Input", 8 P5.0 (io), 9 P5.1 (io), 10 P1.6 (io), 11 P1.7 (io), 12 P5.2 (io), 13 P5.3 (io), 14 P5.4 (io), 15 P5.5 (io), 16 TMS (in) "Test Mode Select", 17 P0.0 (io), 18 P0.2 (io), 19 P5.6 (io), 20 P5.7 (io), 21 P0.1 (io), 22 P2.0 (in), 23 P2.1 (in), 24 P2.2 (in), 27 P2.3 (in), 28 P2.4 (in), 29 P2.5 (in), 30 P2.6 (in), 33 P2.7 (in), 34 P1.0 (io), 35 P1.1 (io), 36 P1.2 (io), 37 P1.3 (io), 38 P1.4 (io), 39 P1.5 (io), 40 P4.3 (io), 41 P3.6 (io), 42 P3.7 (io), 43 P3.0 (io), 44 P3.1 (io), 45 P4.4 (io), 46 P4.5 (io), 47 P4.6 (io), 48 P4.7 (io), 49 P3.2 (io), 50 P3.3 (io), 51 P3.4 (io), 52 P3.5 (io), 53 ~{RESET} (in) "Reset Input", 56 NC "No Connection", 57 NC "No Connection", 58 MBC (in) "Monitor & BootStrap Loader Control", 59 P4.0 (io), 60 P4.1 (io), 61 P4.2 (io), 62 P0.7 (io), 63 P0.3 (io), 64 P0.4 (io)
part B pins: 5 VSSC (power) "Core Supply Ground", 6 VDDC (power) "Core Supply Monitor (2.5 V)", 7 VDDP (power) "I/O Port Supply (3.3 or 5.0 V)", 25 VDDP (power) "I/O Port Supply (3.3 or 5.0 V)", 26 VSSP (power) "I/O Port Ground", 31 VAGND (power) "ADC Reference Ground", 32 VAREF (power) "ADC Reference Voltage", 54 VSSP (power) "I/O Port Ground", 55 VDDP (power) "I/O Port Supply (3.3 or 5.0 V)"

## SAK-XC888LM-8FFA 5V AC
designator U?
24 MHz XC800-Automotive MCU with 32 KByte Program Memory, 1.75 KByte SRAM, 5 V, PG-LQFP-64, Green; Manufacturer: Infineon; PartNumber: SAK-XC888LM-8FFA 5V AC; A / D input lines (incl. FADC): 8; CAN Nodes: 0; Digital I/O Lines: 48; DSP functionality (e.g MDU/MAC): TRUE; I/O Operation Voltages: 5 V; Max Clock Frequency: 24 MHz; Number of ADC Modules: 1; Packing: Reel; Power Modes: 4; Real Time Clock (RTC): FALSE; Serial I/O Interfaces: 3; Type of Memory: Flash; Type of Serial I/O Interfaces: UART(2), SSC(1); DatasheetVersion: Rev. 1.2; PackageVersion: V1.2, 03/2007; PackageReference: PG-TQFP-64-8; PackageDescription: 64-Pin Plastic Thin Quad Flat Package, Body 10 x 10 mm, Pitch 0.5 mm; Supplier 1: Digi-Key; Supplier Part Number 1: SAK-XC888LM-8FFA 5V AC-ND; DMA Channels: 0; E2PROM Emulation (Data-Flash): TRUE; Green: TRUE; Halogen-free: available; Instruction width [bits]: 8; LIN BSL loader (for fast Flash programming): TRUE; On-chip clock generation: TRUE; On-chip Voltage Regulator: TRUE; Oscillator Watchdog: TRUE; Program Memory: 32 KByte; SRAM (incl. Cache): 1.75 KByte; Timed I/O Pins (PWM-Ch,CAPCOM): 4; Timer / Counter: 4; Watchdog Timer: TRUE; Mounting Technology: Surface Mount; ComponentLink1Description: Manufacturer URL; ComponentLink1URL: http://www.infineon.com/; ComponentLink2Description: Datasheet; ComponentLink2URL: http://www.infineon.com/dgdl/XC88xCLM_ds_V1_2.pdf?folderId=db3a304412b407950112b408e8c90004&fileId=db3a304412b407950112b40c4a9e0afb; ComponentLink3Description: Package Specification; ComponentLink3URL: http://www.infineon.com/dgdl/xc164lm_ds_v1.2_2007_03.pdf?folderId=db3a304412b407950112b408e8c90004&fileId=db3a304412b407950112b40c22200a81&sId=db3a30433d956bc3013d9e7060dd2801
footprint INF-PG-TQFP-64-8_N (QFP, 64-Leads, Body 10x10mm, Pitch 0.5mm, IPC Medium Density)
footprint INF-PG-TQFP-64-8_L (QFP, 64-Leads, Body 10x10mm, Pitch 0.5mm, IPC High Density)
footprint INF-PG-TQFP-64-8_M (QFP, 64-Leads, Body 10x10mm, Pitch 0.5mm, IPC Low Density)
part A pins: 1 P0.5 (io), 2 P0.6 (io) "GPIO", 3 XTAL2 "External Oscillator Output", 4 XTAL1 "External Oscillator Input", 8 P5.0 (io), 9 P5.1 (io), 10 P1.6 (io), 11 P1.7 (io), 12 P5.2 (io), 13 P5.3 (io), 14 P5.4 (io), 15 P5.5 (io), 16 TMS (in) "Test Mode Select", 17 P0.0 (io), 18 P0.2 (io), 19 P5.6 (io), 20 P5.7 (io), 21 P0.1 (io), 22 P2.0 (in), 23 P2.1 (in), 24 P2.2 (in), 27 P2.3 (in), 28 P2.4 (in), 29 P2.5 (in), 30 P2.6 (in), 33 P2.7 (in), 34 P1.0 (io), 35 P1.1 (io), 36 P1.2 (io), 37 P1.3 (io), 38 P1.4 (io), 39 P1.5 (io), 40 P4.3 (io), 41 P3.6 (io), 42 P3.7 (io), 43 P3.0 (io), 44 P3.1 (io), 45 P4.4 (io), 46 P4.5 (io), 47 P4.6 (io), 48 P4.7 (io), 49 P3.2 (io), 50 P3.3 (io), 51 P3.4 (io), 52 P3.5 (io), 53 ~{RESET} (in) "Reset Input", 56 NC "No Connection", 57 NC "No Connection", 58 MBC (in) "Monitor & BootStrap Loader Control", 59 P4.0 (io), 60 P4.1 (io), 61 P4.2 (io), 62 P0.7 (io), 63 P0.3 (io), 64 P0.4 (io)
part B pins: 5 VSSC (power) "Core Supply Ground", 6 VDDC (power) "Core Supply Monitor (2.5 V)", 7 VDDP (power) "I/O Port Supply (3.3 or 5.0 V)", 25 VDDP (power) "I/O Port Supply (3.3 or 5.0 V)", 26 VSSP (power) "I/O Port Ground", 31 VAGND (power) "ADC Reference Ground", 32 VAREF (power) "ADC Reference Voltage", 54 VSSP (power) "I/O Port Ground", 55 VDDP (power) "I/O Port Supply (3.3 or 5.0 V)"

## SAK-XC2210U-4F40R AA
designator U?
40 MHz XC2200 MCU with 32 KByte Program Memory, 8 KByte SRAM, 3 V, 5.5 V, -40 to 125 degC, PG-TSSOP-38, Reel, Green; Manufacturer: Infineon; PartNumber: SAK-XC2210U-4F40R AA; A / D input lines (incl. FADC): 7; CAN Nodes: 0; Digital I/O Lines: 28; DMA Channels: 8(16); DSP functionality (e.g MDU/MAC): TRUE; FlexRay TM: FALSE; Instruction width [bits]: 16/32; Max Clock Frequency: 40 MHz; Number of ADC Modules: 1; Power Modes: 2; SRAM (incl. Cache): 8 KByte; Timed I/O Pins (PWM-Ch,CAPCOM): up to 17; Timer / Counter: 11; Type of Memory: Flash; Type of Serial I/O Interfaces: SPI(2), LIN, UART, I2C, I2S; DatasheetVersion: Rev. 1.2; PackageVersion: V1.2, 07/2012; PackageReference: PG-TSSOP-38-8; PackageDescription: 38-Pin Plastic (Green) Thin Shrink Small Outline Package, Body 9.7 x 4.4 mm, Pitch 0.5 mm; E2PROM Emulation (Data-Flash): TRUE; External Bus interface: TRUE; Green: TRUE; Halogen-free: available; I/O Operation Voltages: 3 V, 5.5 V; On-chip clock generation: TRUE; On-chip Voltage Regulator: TRUE; Oscillator Watchdog: TRUE; Packing: Reel; Program Memory: 32 KByte; Real Time Clock (RTC): TRUE; Serial I/O Interfaces: 2; Watchdog Timer: TRUE; Mounting Technology: Surface Mount; Code_JEDEC: J-STD-020C; ComponentLink1Description: Manufacturer URL; ComponentLink1URL: http://www.infineon.com/; ComponentLink2Description: Datasheet; ComponentLink2URL: http://www.infineon.com/dgdl/xc2210u_ds_v1.2_2012_07.pdf?folderId=db3a304412b407950112b409d4b00386&fileId=db3a30432fe423be01300234af6b6315; ComponentLink3Description: Package Specification; ComponentLink3URL: http://www.infineon.com/dgdl/xc2210u_ds_v1.2_2012_07.pdf?folderId=db3a304412b407950112b409d4b00386&fileId=db3a30432fe423be01300234af6b6315&sId=db3a30433d956bc3013da090094b2cd9
footprint INF-PG-TSSOP-38-8_N (SOP, 38-Leads, Body 9.7x4.4mm, Pitch 0.5mm, IPC Medium Density)
footprint INF-PG-TSSOP-38-8_L (SOP, 38-Leads, Body 9.7x4.4mm, Pitch 0.5mm, IPC High Density)
footprint INF-PG-TSSOP-38-8_M (SOP, 38-Leads, Body 9.7x4.4mm, Pitch 0.5mm, IPC Low Density)
pins: 1 VAREF (power) "Reference Voltage for A/D Converters ADC0", 2 VAGND (power) "Reference Ground for A/D Converters ADC0", 3 P5.0 (in), 4 P5.2 (in), 5 P5.3 (in), 6 P5.4 (in), 7 P5.8 (in), 8 P2.0 (io), 9 VSS (power) "Digital Ground. All VSS pins must be connected to the ground-line or ground-plane.", 10 VDDPB (power) "Digital Pad Supply Voltage for Domain B. Connect decoupling capacitors to adjacent VDDP/VSS pin pairs as close as possible to the pins.", 11 P2.3 (io), 12 P2.4 (io), 13 P2.5 (io), 14 P2.6 (io), 15 P2.7 (io), 16 P2.8 (io), 17 P2.9 (io), 18 P2.10 (io), 19 P10.0 (io), 20 P10.1 (io), 21 P10.2 (io), 22 P10.3 (io), 23 P10.4 (io), 24 P10.5 (io), 25 P10.6 (io), 26 P10.7 (io), 27 P10.8 (io), 28 P10.9 (io), 29 VDDPB (power) "Digital Pad Supply Voltage for Domain B. Connect decoupling capacitors to adjacent VDDP/VSS pin pairs as close as possible to the pins.", 30 VSS (power) "Digital Ground. All VSS pins must be connected to the ground-line or ground-plane.", 31 VDDIM (power) "Digital Core Supply Voltage for Domain M. Decouple with a ceramic capacitor, see Data Sheet for details. All VDDIM pins must be connected to each other.", 32 P10.10 (io), 33 P10.12 (io), 34 ~{PORST} (in) "Power On Reset Input. A low level at this pin resets the XC2712X completely. A spike filter suppresses input pulses <10 ns. Input pulses >100 ns safely pass the filter. The minimum duration for a safe recognition should be (See Datasheet)", 35 ~{TESTM} (in) "Testmode Enable. Enables factory test modes, must be held HIGH for normal operation (connect to VDDPB). An internal pullup device will hold this pin high when nothing is driving it.", 36 ~{TRST} (in) "Test-System Reset Input. For normal system operation, pin T\R\S\T\ should be held low. A high level at this pin at the rising edge of P\O\R\S\T\ activates the XC2712X¡¯s debug system. In this case, pin T\R\S\T\ must b(See Datasheet)", 37 P6.1 (io), 38 P6.0 (io)

## SAK-XC2210U-8F40R AA
designator U?
40 MHz XC2200 MCU with 64 KByte Program Memory, 8 KByte SRAM, 3 V, 5.5 V, -40 to 125 degC, PG-TSSOP-38, Reel, Green; Manufacturer: Infineon; PartNumber: SAK-XC2210U-8F40R AA; A / D input lines (incl. FADC): 7; CAN Nodes: 0; Digital I/O Lines: 28; DMA Channels: 8(16); DSP functionality (e.g MDU/MAC): TRUE; FlexRay TM: FALSE; Instruction width [bits]: 16/32; Max Clock Frequency: 40 MHz; Number of ADC Modules: 1; Power Modes: 2; SRAM (incl. Cache): 8 KByte; Timed I/O Pins (PWM-Ch,CAPCOM): up to 17; Timer / Counter: 11; Type of Memory: Flash; Type of Serial I/O Interfaces: SPI(2), LIN, UART, I2C, I2S; DatasheetVersion: Rev. 1.2; PackageVersion: V1.2, 07/2012; PackageReference: PG-TSSOP-38-8; PackageDescription: 38-Pin Plastic (Green) Thin Shrink Small Outline Package, Body 9.7 x 4.4 mm, Pitch 0.5 mm; Supplier 1: Digi-Key; Supplier Part Number 1: SAK-XC2210U-8F40R AA-ND; E2PROM Emulation (Data-Flash): TRUE; External Bus interface: TRUE; Green: TRUE; Halogen-free: TRUE; I/O Operation Voltages: 3 V, 5.5 V; On-chip clock generation: TRUE; On-chip Voltage Regulator: TRUE; Oscillator Watchdog: TRUE; Packing: Reel; Program Memory: 64 KByte; Real Time Clock (RTC): TRUE; Serial I/O Interfaces: 2; Watchdog Timer: TRUE; Mounting Technology: Surface Mount; Code_JEDEC: J-STD-020C; ComponentLink1Description: Manufacturer URL; ComponentLink1URL: http://www.infineon.com/; ComponentLink2Description: Datasheet; ComponentLink2URL: http://www.infineon.com/dgdl/xc2210u_ds_v1.2_2012_07.pdf?folderId=db3a304412b407950112b409d4b00386&fileId=db3a30432fe423be01300234af6b6315; ComponentLink3Description: Package Specification; ComponentLink3URL: http://www.infineon.com/dgdl/xc2210u_ds_v1.2_2012_07.pdf?folderId=db3a304412b407950112b409d4b00386&fileId=db3a30432fe423be01300234af6b6315&sId=db3a30433d956bc3013da090094b2cd9
footprint INF-PG-TSSOP-38-8_N (SOP, 38-Leads, Body 9.7x4.4mm, Pitch 0.5mm, IPC Medium Density)
footprint INF-PG-TSSOP-38-8_L (SOP, 38-Leads, Body 9.7x4.4mm, Pitch 0.5mm, IPC High Density)
footprint INF-PG-TSSOP-38-8_M (SOP, 38-Leads, Body 9.7x4.4mm, Pitch 0.5mm, IPC Low Density)
pins: 1 VAREF (power) "Reference Voltage for A/D Converters ADC0", 2 VAGND (power) "Reference Ground for A/D Converters ADC0", 3 P5.0 (in), 4 P5.2 (in), 5 P5.3 (in), 6 P5.4 (in), 7 P5.8 (in), 8 P2.0 (io), 9 VSS (power) "Digital Ground. All VSS pins must be connected to the ground-line or ground-plane.", 10 VDDPB (power) "Digital Pad Supply Voltage for Domain B. Connect decoupling capacitors to adjacent VDDP/VSS pin pairs as close as possible to the pins.", 11 P2.3 (io), 12 P2.4 (io), 13 P2.5 (io), 14 P2.6 (io), 15 P2.7 (io), 16 P2.8 (io), 17 P2.9 (io), 18 P2.10 (io), 19 P10.0 (io), 20 P10.1 (io), 21 P10.2 (io), 22 P10.3 (io), 23 P10.4 (io), 24 P10.5 (io), 25 P10.6 (io), 26 P10.7 (io), 27 P10.8 (io), 28 P10.9 (io), 29 VDDPB (power) "Digital Pad Supply Voltage for Domain B. Connect decoupling capacitors to adjacent VDDP/VSS pin pairs as close as possible to the pins.", 30 VSS (power) "Digital Ground. All VSS pins must be connected to the ground-line or ground-plane.", 31 VDDIM (power) "Digital Core Supply Voltage for Domain M. Decouple with a ceramic capacitor, see Data Sheet for details. All VDDIM pins must be connected to each other.", 32 P10.10 (io), 33 P10.12 (io), 34 ~{PORST} (in) "Power On Reset Input. A low level at this pin resets the XC2712X completely. A spike filter suppresses input pulses <10 ns. Input pulses >100 ns safely pass the filter. The minimum duration for a safe recognition should be (See Datasheet)", 35 ~{TESTM} (in) "Testmode Enable. Enables factory test modes, must be held HIGH for normal operation (connect to VDDPB). An internal pullup device will hold this pin high when nothing is driving it.", 36 ~{TRST} (in) "Test-System Reset Input. For normal system operation, pin T\R\S\T\ should be held low. A high level at this pin at the rising edge of P\O\R\S\T\ activates the XC2712X¡¯s debug system. In this case, pin T\R\S\T\ must b(See Datasheet)", 37 P6.1 (io), 38 P6.0 (io)

## SAK-XC2220U-4F40V AA
designator U?
40 MHz XC2200 MCU with 32 KByte Program Memory, 8 KByte SRAM, 3 V, 5.5 V, -40 to 125 degC, PG-VQFN-48, Reel, Green; Manufacturer: Infineon; PartNumber: SAK-XC2220U-4F40V AA; A / D input lines (incl. FADC): 10; CAN Nodes: 0; Digital I/O Lines: 33; DMA Channels: 8(16); DSP functionality (e.g MDU/MAC): TRUE; FlexRay TM: FALSE; Instruction width [bits]: 16/32; Max Clock Frequency: 40 MHz; Number of ADC Modules: 1; Power Modes: 2; SRAM (incl. Cache): 8 KByte; Timed I/O Pins (PWM-Ch,CAPCOM): up to 17; Timer / Counter: 11; Type of Memory: Flash; Type of Serial I/O Interfaces: SPI(2), LIN, UART, I2C, I2S; DatasheetVersion: Rev. 1.2; PackageVersion: Nov-10; PackageReference: PG-VQFN-48-54; PackageDescription: 48-Pin Plastic (Green) Very Thin Profile Quad Flat Non Leaded Package, Body 6.8 x 6.8 mm, Pitch 0.5 mm; E2PROM Emulation (Data-Flash): TRUE; External Bus interface: TRUE; Green: TRUE; Halogen-free: available; I/O Operation Voltages: 3 V, 5.5 V; On-chip clock generation: TRUE; On-chip Voltage Regulator: TRUE; Oscillator Watchdog: TRUE; Packing: Reel; Program Memory: 32 KByte; Real Time Clock (RTC): TRUE; Serial I/O Interfaces: 2; Watchdog Timer: TRUE; Mounting Technology: Surface Mount; ComponentLink1Description: Manufacturer URL; ComponentLink1URL: http://www.infineon.com/; ComponentLink2Description: Datasheet; ComponentLink2URL: http://www.infineon.com/dgdl/xc2220u_ds_v1.2_2012_07.pdf?folderId=db3a304412b407950112b409d4b00386&fileId=db3a30432fe423be0130023918e26322; ComponentLink3Description: Package Specification; ComponentLink3URL: http://www.infineon.com/dgdl/PG-VQFN-48-15%2C-19%2C-20%2C-22%2C-24%2C-48%2C-51%2C-52%2C-53%2C-54%2C-55%2C-56%2C-57-Package_Overview.pdf?folderId=db3a304319c6f18c0119e80a8f2559bf&fileId=db3a304319c6f18c011a0b8b18c33200
footprint INF-PG-VQFN-48-54_N (QFN, 48-Leads, Body 6.8x6.8mm, Pitch 0.5mm, Thermal Pad 5.2x5.2mm, IPC Medium Density)
footprint INF-PG-VQFN-48-54_L (QFN, 48-Leads, Body 6.8x6.8mm, Pitch 0.5mm, Thermal Pad 5.2x5.2mm, IPC High Density)
footprint INF-PG-VQFN-48-54_M (QFN, 48-Leads, Body 6.8x6.8mm, Pitch 0.5mm, Thermal Pad 5.2x5.2mm, IPC Low Density)
pins: 1 ~{TESTM} (in) "Testmode Enable. Enables factory test modes, must be held HIGH for normal operation (connect to VDDPB). An internal pullup device will hold this pin high when nothing is driving it.", 2 ~{TRST} (in) "Test-System Reset Input. For normal system operation, pin T\R\S\T\ should be held low. A high level at this pin at the rising edge of P\O\R\S\T\ activates the XC2320S¡¯s debug system. In his case, pin T\R\S\T\ must b(See Datasheet)", 3 P6.3 (io), 4 P6.1 (io), 5 P6.0 (io), 6 VSS (power) "Digital Ground. All VSS pins must be connected to the ground-line or ground-plane.", 7 VDDPB (power) "Digital Pad Supply Voltage for Domain B. Connect decoupling capacitors to adjacent VDDP/VSS pin pairs as close as possible to the pins.", 8 VAREF (power) "Reference Voltage for A/D Converters ADC0", 9 VAGND (power) "Reference Ground for A/D Converters ADC0", 10 P5.0 (in), 11 P5.2 (in), 12 P5.3 (in), 13 P5.4 (in), 14 P5.8 (in), 15 P5.9 (in), 16 P2.0 (io), 17 P2.1 (io), 18 VDDIM (power) "Digital Core Supply Voltage for Domain M. Decouple with a ceramic capacitor, see Data Sheet for details. All VDDIM pins must be connected to each other.", 19 VSS (power) "Digital Ground. All VSS pins must be connected to the ground-line or ground-plane.", 20 VDDPB (power) "Digital Pad Supply Voltage for Domain B. Connect decoupling capacitors to adjacent VDDP/VSS pin pairs as close as possible to the pins.", 21 P2.2 (io), 22 P2.3 (io), 23 P2.4 (io), 24 P2.5 (io), 25 P2.6 (io), 26 P2.7 (io), 27 P2.8 (io), 28 P2.9 (io), 29 P2.10 (io), 30 P2.13 (io) "Bit 13 of Port 2, General Purpose Input/Output", 31 P10.0 (io), 32 P10.1 (io), 33 P10.2 (io), 34 P10.3 (io), 35 P10.4 (io), 36 P10.5 (io), 37 P10.6 (io), 38 P10.7 (io), 39 P10.8 (io), 40 P10.9 (io), 41 VDDPB (power) "Digital Pad Supply Voltage for Domain B. Connect decoupling capacitors to adjacent VDDP/VSS pin pairs as close as possible to the pins.", 42 VSS (power) "Digital Ground. All VSS pins must be connected to the ground-line or ground-plane.", 43 VDDIM (power) "Digital Core Supply Voltage for Domain M. Decouple with a ceramic capacitor, see Data Sheet for details. All VDDIM pins must be connected to each other.", 44 P10.10 (io), 45 P10.12 (io), 46 XTAL2 "Crystal Oscillator Amplifier Output", 47 XTAL1, 48 ~{PORST} (in) "Power On Reset Input. A low level at this pin resets the XC2320S completely. A spike filter suppresses input pulses <10 ns. Input pulses >100 ns safely pass the filter. The minimum duration for a safe recognition should be (See Datasheet)", 49 EP (power)

## SAK-XC2220U-8F40V AA
designator U?
40 MHz XC2200 MCU with 64 KByte Program Memory, 8 KByte SRAM, 3 V, 5.5 V, -40 to 125 degC, PG-VQFN-48, Reel, Green; Manufacturer: Infineon; PartNumber: SAK-XC2220U-8F40V AA; A / D input lines (incl. FADC): 10; CAN Nodes: 0; Digital I/O Lines: 33; DMA Channels: 8(16); DSP functionality (e.g MDU/MAC): TRUE; FlexRay TM: FALSE; Instruction width [bits]: 16/32; Max Clock Frequency: 40 MHz; Number of ADC Modules: 1; Power Modes: 2; SRAM (incl. Cache): 8 KByte; Timed I/O Pins (PWM-Ch,CAPCOM): up to 17; Timer / Counter: 11; Type of Memory: Flash; Type of Serial I/O Interfaces: SPI(2), LIN, UART, I2C, I2S; DatasheetVersion: Rev. 1.2; PackageVersion: Nov-10; PackageReference: PG-VQFN-48-54; PackageDescription: 48-Pin Plastic (Green) Very Thin Profile Quad Flat Non Leaded Package, Body 6.8 x 6.8 mm, Pitch 0.5 mm; Supplier 1: Mouser; Supplier Part Number 1: 726-SAKXC2220U840VAA; Supplier 2: Digi-Key; Supplier Part Number 2: SAK-XC2220U-8F40V AA-ND; E2PROM Emulation (Data-Flash): TRUE; External Bus interface: TRUE; Green: TRUE; Halogen-free: TRUE; I/O Operation Voltages: 3 V, 5.5 V; On-chip clock generation: TRUE; On-chip Voltage Regulator: TRUE; Oscillator Watchdog: TRUE; Packing: Reel; Program Memory: 64 KByte; Real Time Clock (RTC): TRUE; Serial I/O Interfaces: 2; Watchdog Timer: TRUE; Mounting Technology: Surface Mount; ComponentLink1Description: Manufacturer URL; ComponentLink1URL: http://www.infineon.com/; ComponentLink2Description: Datasheet; ComponentLink2URL: http://www.infineon.com/dgdl/xc2220u_ds_v1.2_2012_07.pdf?folderId=db3a304412b407950112b409d4b00386&fileId=db3a30432fe423be0130023918e26322; ComponentLink3Description: Package Specification; ComponentLink3URL: http://www.infineon.com/dgdl/PG-VQFN-48-15%2C-19%2C-20%2C-22%2C-24%2C-48%2C-51%2C-52%2C-53%2C-54%2C-55%2C-56%2C-57-Package_Overview.pdf?folderId=db3a304319c6f18c0119e80a8f2559bf&fileId=db3a304319c6f18c011a0b8b18c33200
footprint INF-PG-VQFN-48-54_N (QFN, 48-Leads, Body 6.8x6.8mm, Pitch 0.5mm, Thermal Pad 5.2x5.2mm, IPC Medium Density)
footprint INF-PG-VQFN-48-54_L (QFN, 48-Leads, Body 6.8x6.8mm, Pitch 0.5mm, Thermal Pad 5.2x5.2mm, IPC High Density)
footprint INF-PG-VQFN-48-54_M (QFN, 48-Leads, Body 6.8x6.8mm, Pitch 0.5mm, Thermal Pad 5.2x5.2mm, IPC Low Density)
pins: 1 ~{TESTM} (in) "Testmode Enable. Enables factory test modes, must be held HIGH for normal operation (connect to VDDPB). An internal pullup device will hold this pin high when nothing is driving it.", 2 ~{TRST} (in) "Test-System Reset Input. For normal system operation, pin T\R\S\T\ should be held low. A high level at this pin at the rising edge of P\O\R\S\T\ activates the XC2320S¡¯s debug system. In his case, pin T\R\S\T\ must b(See Datasheet)", 3 P6.3 (io), 4 P6.1 (io), 5 P6.0 (io), 6 VSS (power) "Digital Ground. All VSS pins must be connected to the ground-line or ground-plane.", 7 VDDPB (power) "Digital Pad Supply Voltage for Domain B. Connect decoupling capacitors to adjacent VDDP/VSS pin pairs as close as possible to the pins.", 8 VAREF (power) "Reference Voltage for A/D Converters ADC0", 9 VAGND (power) "Reference Ground for A/D Converters ADC0", 10 P5.0 (in), 11 P5.2 (in), 12 P5.3 (in), 13 P5.4 (in), 14 P5.8 (in), 15 P5.9 (in), 16 P2.0 (io), 17 P2.1 (io), 18 VDDIM (power) "Digital Core Supply Voltage for Domain M. Decouple with a ceramic capacitor, see Data Sheet for details. All VDDIM pins must be connected to each other.", 19 VSS (power) "Digital Ground. All VSS pins must be connected to the ground-line or ground-plane.", 20 VDDPB (power) "Digital Pad Supply Voltage for Domain B. Connect decoupling capacitors to adjacent VDDP/VSS pin pairs as close as possible to the pins.", 21 P2.2 (io), 22 P2.3 (io), 23 P2.4 (io), 24 P2.5 (io), 25 P2.6 (io), 26 P2.7 (io), 27 P2.8 (io), 28 P2.9 (io), 29 P2.10 (io), 30 P2.13 (io) "Bit 13 of Port 2, General Purpose Input/Output", 31 P10.0 (io), 32 P10.1 (io), 33 P10.2 (io), 34 P10.3 (io), 35 P10.4 (io), 36 P10.5 (io), 37 P10.6 (io), 38 P10.7 (io), 39 P10.8 (io), 40 P10.9 (io), 41 VDDPB (power) "Digital Pad Supply Voltage for Domain B. Connect decoupling capacitors to adjacent VDDP/VSS pin pairs as close as possible to the pins.", 42 VSS (power) "Digital Ground. All VSS pins must be connected to the ground-line or ground-plane.", 43 VDDIM (power) "Digital Core Supply Voltage for Domain M. Decouple with a ceramic capacitor, see Data Sheet for details. All VDDIM pins must be connected to each other.", 44 P10.10 (io), 45 P10.12 (io), 46 XTAL2 "Crystal Oscillator Amplifier Output", 47 XTAL1, 48 ~{PORST} (in) "Power On Reset Input. A low level at this pin resets the XC2320S completely. A spike filter suppresses input pulses <10 ns. Input pulses >100 ns safely pass the filter. The minimum duration for a safe recognition should be (See Datasheet)", 49 EP (power)